# EAGLE library part KSZ8041TL (library micrelPHY)
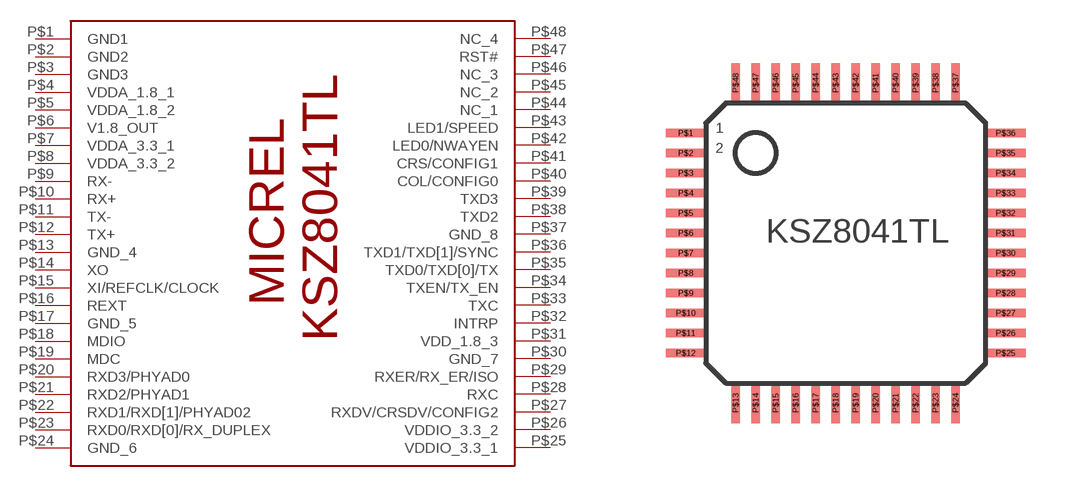
[diagram p0: symbol with the pads of 48PIN-TQFN; footprint 48PIN-TQFN]

Designator prefix -

## KSZ8041TL  [48PIN-TQFN]
P$1  GND1
P$2  GND2
P$3  GND3
P$4  VDDA_1.8_1
P$5  VDDA_1.8_2
P$6  V1.8_OUT
P$7  VDDA_3.3_1
P$8  VDDA_3.3_2
P$9  RX-
P$10  RX+
P$11  TX-
P$12  TX+
P$13  GND_4
P$14  XO
P$15  XI/REFCLK/CLOCK
P$16  REXT
P$17  GND_5
P$18  MDIO
P$19  MDC
P$20  RXD3/PHYAD0
P$21  RXD2/PHYAD1
P$22  RXD1/RXD[1]/PHYAD02
P$23  RXD0/RXD[0]/RX_DUPLEX
P$24  GND_6
P$25  VDDIO_3.3_1
P$26  VDDIO_3.3_2
P$27  RXDV/CRSDV/CONFIG2
P$28  RXC
P$29  RXER/RX_ER/ISO
P$30  GND_7
P$31  VDD_1.8_3
P$32  INTRP
P$33  TXC
P$34  TXEN/TX_EN
P$35  TXD0/TXD[0]/TX
P$36  TXD1/TXD[1]/SYNC
P$37  GND_8
P$38  TXD2
P$39  TXD3
P$40  COL/CONFIG0
P$41  CRS/CONFIG1
P$42  LED0/NWAYEN
P$43  LED1/SPEED
P$44  NC_1
P$45  NC_2
P$46  NC_3
P$47  RST#
P$48  NC_4

## Footprint 48PIN-TQFN (pad centres in mm)
smd 1 x 0.22: P$1 -4,2.75; P$2 -4,2.25; P$3 -4,1.75; P$4 -4,1.25; P$5 -4,0.75; P$6 -4,0.25; P$7 -4,-0.25; P$8 -4,-0.75; P$9 -4,-1.25; P$10 -4,-1.75; P$11 -4,-2.25; P$12 -4,-2.75; P$25 4,-2.75; P$26 4,-2.25; P$27 4,-1.75; P$28 4,-1.25; P$29 4,-0.75; P$30 4,-0.25; P$31 4,0.25; P$32 4,0.75; P$33 4,1.25; P$34 4,1.75; P$35 4,2.25; P$36 4,2.75
smd 0.22 x 1: P$13 -2.75,-4; P$14 -2.25,-4; P$15 -1.75,-4; P$16 -1.25,-4; P$17 -0.75,-4; P$18 -0.25,-4; P$19 0.25,-4; P$20 0.75,-4; P$21 1.25,-4; P$22 1.75,-4; P$23 2.25,-4; P$24 2.75,-4; P$37 2.75,4; P$38 2.25,4; P$39 1.75,4; P$40 1.25,4; P$41 0.75,4; P$42 0.25,4; P$43 -0.25,4; P$44 -0.75,4; P$45 -1.25,4; P$46 -1.75,4; P$47 -2.25,4; P$48 -2.75,4